# EAGLE library part TT1-6 (library minicircuits1)
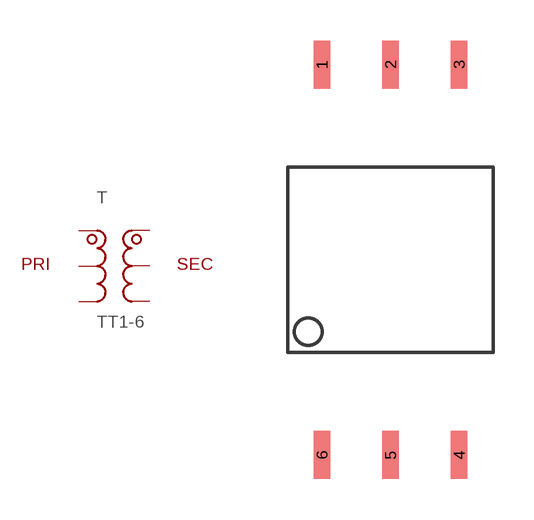
[diagram p0: symbol with the pads of KK81; footprint KK81]

Designator prefix T

## TT1-6  [KK81]
1  S2  pas
2  ST  pas
3  S1  pas
4  P1  pas
5  PT  pas
6  P2  pas

## Footprint KK81 (pad centres in mm)
smd 0.61 x 1.778: 1 -2.54,7.239; 2 0,7.239; 3 2.54,7.239; 4 2.54,-7.239; 5 0,-7.239; 6 -2.54,-7.239